# Altium footprint library InSOP-24D.PcbLib: 1 footprints
Each footprint in its own frame and in the unit in brackets; x right, y up, seen from the top. Pads: shape width x height; smd on the part's side, far side on the other; paste and mask are expansions set on the pad; w line width, h text height; cw(c..) or ccw(c..) is an arc to the next point about the centre after c.

## InSOP-24D [mm] "InSOP-24D"
3D body "InSOP-24D.STEP": height 1.6, standoff 0, extent -6.715,-4.7 6.715,4.7